# Altium schematic symbol library SamacSys.SchLib: 115 symbols (part 2 of 2)
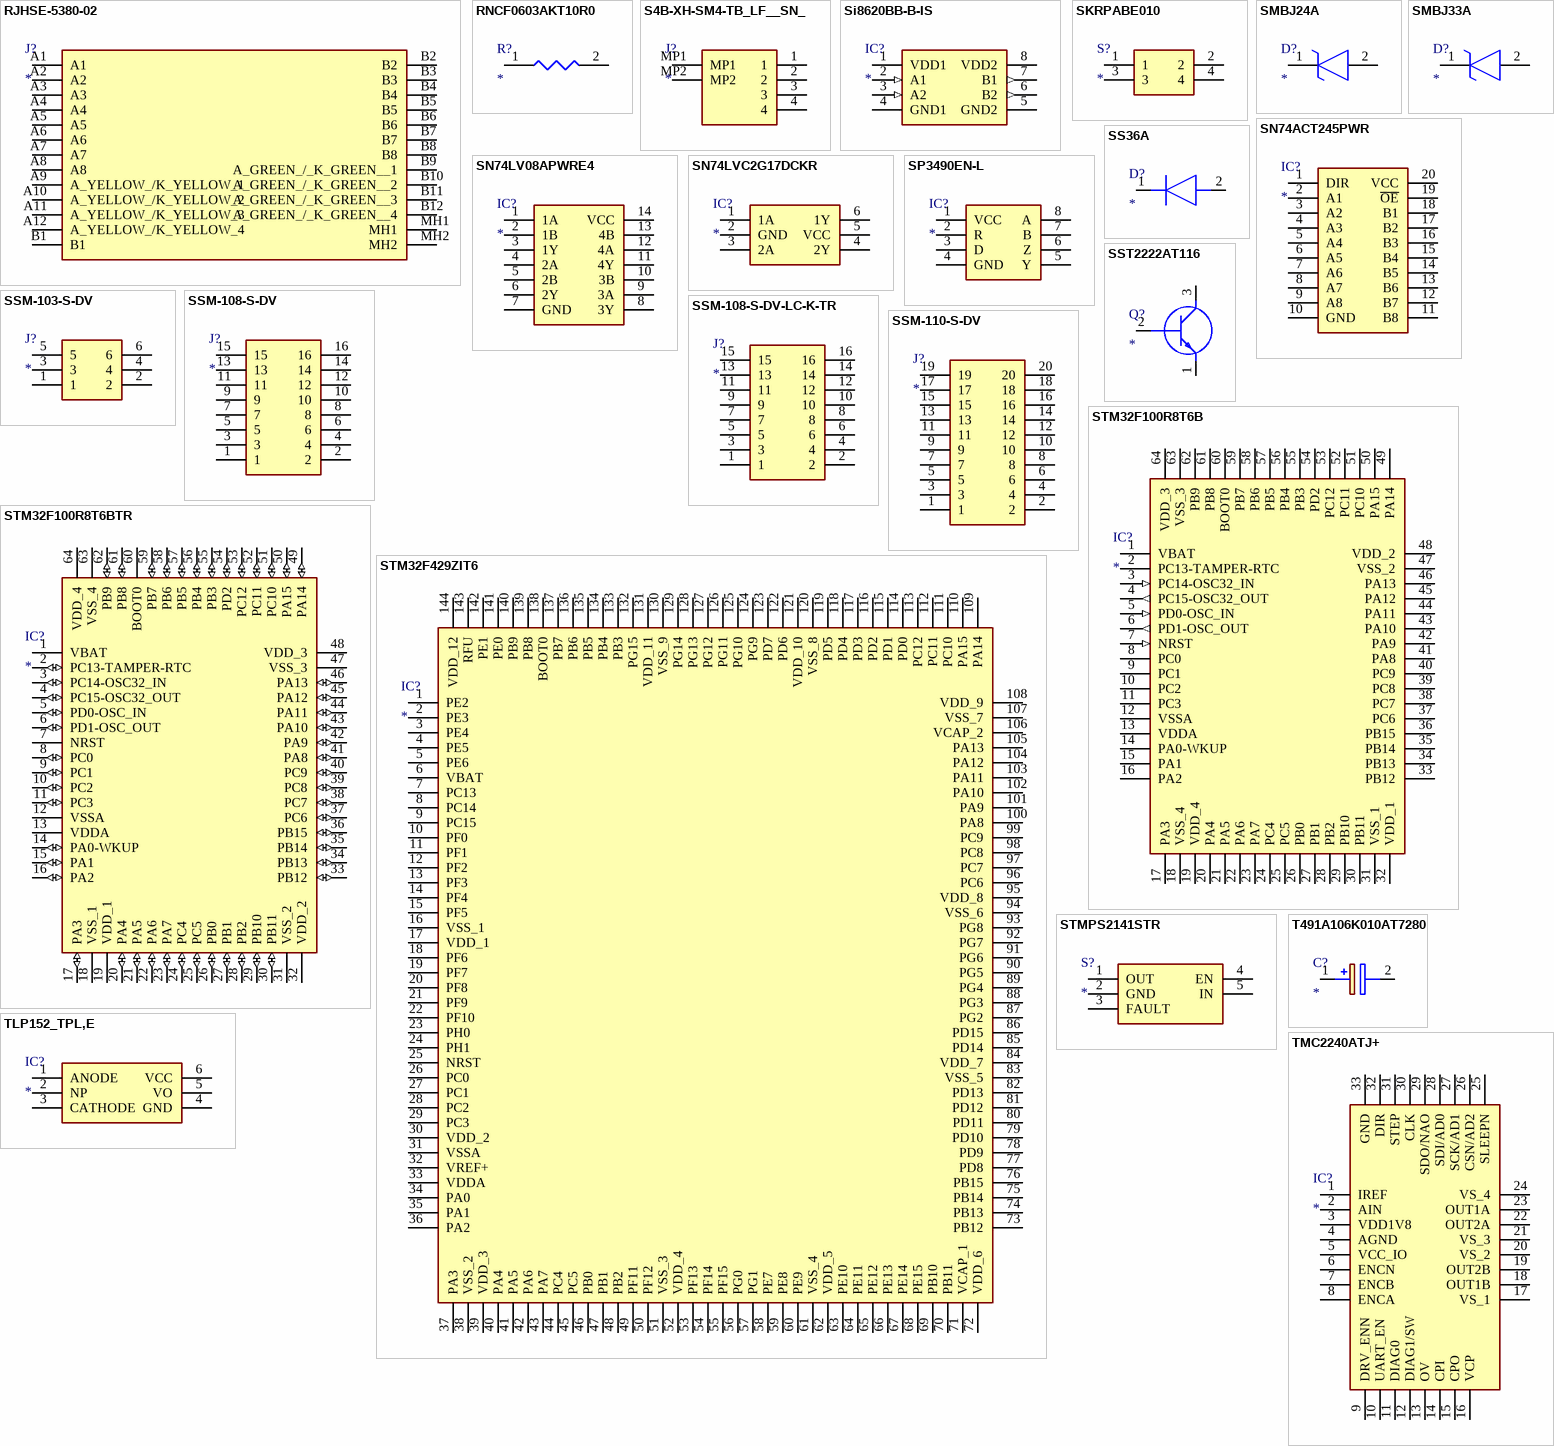
[diagram p4: symbols RJHSE-5380-02 to TMC2240ATJ+]

## SSM-103-S-DV
designator J?
Connector; Manufacturer_Name: SAMTEC; Manufacturer_Part_Number: SSM-103-S-DV; Datasheet Link: http://suddendocs.samtec.com/prints/ssm-1xx-xxx-dv-xx-xx-xxx-xx-mkt.pdf; Mouser Part Number: 200-SSM103SDV; Mouser Price/Stock: https://www.mouser.co.uk/ProductDetail/Samtec/SSM-103-S-DV?qs=92ilVni64gwd8vWnjybXxg%3D%3D; Arrow Part Number: SSM-103-S-DV; Arrow Price/Stock: https://www.arrow.com/en/products/ssm-103-s-dv/samtec?region=nac
footprint SSM-103-XXX-DV
pins: 1, 2, 3, 4, 5, 6

## SSM-108-S-DV
designator J?
Connector; Manufacturer_Name: SAMTEC; Manufacturer_Part_Number: SSM-108-S-DV; Datasheet Link: http://suddendocs.samtec.com/prints/ssm-1xx-xxx-dv-xx-xx-xxx-xx-mkt.pdf; Mouser Part Number: 200-SSM108SDV; Mouser Price/Stock: https://www.mouser.co.uk/ProductDetail/Samtec/SSM-108-S-DV?qs=rU5fayqh%252BE1NjfamXybjbw%3D%3D; Arrow Part Number: SSM-108-S-DV; Arrow Price/Stock: https://www.arrow.com/en/products/ssm-108-s-dv/samtec
footprint SSM-108-XXX-DV
pins: 1, 2, 3, 4, 5, 6, 7, 8, 9, 10, 11, 12, 13, 14, 15, 16

## SSM-108-S-DV-LC-K-TR
designator J?
Connector; Manufacturer_Name: SAMTEC; Manufacturer_Part_Number: SSM-108-S-DV-LC-K-TR; Datasheet Link: https://suddendocs.samtec.com/prints/ssm-1xx-xxx-dv-xx-xx-xxx-x-xx-mkt.pdf; Height: 7.46mm; Mouser Part Number: 200-SSM108SDVLCKTR; Mouser Price/Stock: https://www.mouser.co.uk/ProductDetail/Samtec/SSM-108-S-DV-LC-K-TR?qs=Cqqh%252BS766wkJFAoCrY93wA%3D%3D
footprint SSM108SDVLCKTR
pins: 1, 2, 3, 4, 5, 6, 7, 8, 9, 10, 11, 12, 13, 14, 15, 16

## SSM-110-S-DV
designator J?
Connector; Manufacturer_Name: SAMTEC; Manufacturer_Part_Number: SSM-110-S-DV; Datasheet Link: https://www.samtec.com/partnumber/SSM-110-S-DV; Mouser Part Number: 200-SSM110SDV; Mouser Price/Stock: https://www.mouser.co.uk/ProductDetail/Samtec/SSM-110-S-DV?qs=rU5fayqh%252BE1RKDSaVkG8rw%3D%3D; Arrow Part Number: SSM-110-S-DV; Arrow Price/Stock: https://www.arrow.com/en/products/ssm-110-s-dv/samtec?region=nac
footprint SSM-110-XXX-DV
pins: 1, 2, 3, 4, 5, 6, 7, 8, 9, 10, 11, 12, 13, 14, 15, 16, 17, 18, 19, 20

## SST2222AT116
designator Q?
Transistor BJT NPN; Manufacturer_Name: ROHM Semiconductor; Manufacturer_Part_Number: SST2222AT116; Datasheet Link: https://fscdn.rohm.com/en/products/databook/datasheet/discrete/transistor/bipolar/um2222au3t106-e.pdf; Height: 1.2mm; Mouser Part Number: 755-SST2222AT116; Mouser Price/Stock: https://www.mouser.co.uk/ProductDetail/ROHM-Semiconductor/SST2222AT116?qs=4kLU8WoGk0sCQjMj42onwQ%3D%3D
footprint SOT95P240X120-3N
pins: 1 E, 2 B, 3 C

## STM32F100R8T6B
designator IC?
Integrated Circuit; Manufacturer_Name: STMicroelectronics; Manufacturer_Part_Number: STM32F100R8T6B; Datasheet Link: https://www.st.com/resource/en/datasheet/stm32f100cb.pdf; Height: 1.6mm; Mouser Part Number: 511-STM32F100R8T6B; Mouser Price/Stock: https://www.mouser.co.uk/ProductDetail/STMicroelectronics/STM32F100R8T6B?qs=J6yVZnuyYCNJKvxz4MQXyA%3D%3D; Arrow Part Number: STM32F100R8T6B; Arrow Price/Stock: https://www.arrow.com/en/products/stm32f100r8t6b/stmicroelectronics.html?utm_currency=USD&region=europe
footprint QFP50P1200X1200X160-64N
pins: 1 VBAT, 2 PC13-TAMPER-RTC, 3 PC14-OSC32_IN (in), 4 PC15-OSC32_OUT (out), 5 PD0-OSC_IN (in), 6 PD1-OSC_OUT (out), 7 NRST (in), 8 PC0, 9 PC1, 10 PC2, 11 PC3, 12 VSSA (power), 13 VDDA (power), 14 PA0-WKUP, 15 PA1, 16 PA2, 17 PA3, 18 VSS_4 (power), 19 VDD_4 (power), 20 PA4, 21 PA5, 22 PA6, 23 PA7, 24 PC4, 25 PC5, 26 PB0, 27 PB1, 28 PB2, 29 PB10, 30 PB11, 31 VSS_1 (power), 32 VDD_1 (power), 33 PB12, 34 PB13, 35 PB14, 36 PB15, 37 PC6, 38 PC7, 39 PC8, 40 PC9, 41 PA8, 42 PA9, 43 PA10, 44 PA11, 45 PA12, 46 PA13, 47 VSS_2 (power), 48 VDD_2 (power), 49 PA14, 50 PA15, 51 PC10, 52 PC11, 53 PC12, 54 PD2, 55 PB3, 56 PB4, 57 PB5, 58 PB6, 59 PB7, 60 BOOT0, 61 PB8, 62 PB9, 63 VSS_3 (power), 64 VDD_3 (power)

## STM32F100R8T6BTR
designator IC?
Integrated Circuit; Manufacturer_Name: STMicroelectronics; Manufacturer_Part_Number: STM32F100R8T6BTR; Datasheet Link: https://www.st.com/resource/en/datasheet/stm32f100cb.pdf; Height: 1.6mm; Mouser Part Number: 511-STM32F100R8T6BTR; Mouser Price/Stock: https://www.mouser.co.uk/ProductDetail/STMicroelectronics/STM32F100R8T6BTR?qs=mxm%2FV7p14IPj1XcVLso2ww%3D%3D; Arrow Part Number: STM32F100R8T6BTR; Arrow Price/Stock: https://www.arrow.com/en/products/stm32f100r8t6btr/stmicroelectronics.html?utm_currency=USD&region=nac
footprint QFP50P1200X1200X160-64N
pins: 1 VBAT (power), 2 PC13-TAMPER-RTC (io), 3 PC14-OSC32_IN (io), 4 PC15-OSC32_OUT (io), 5 PD0-OSC_IN (io), 6 PD1-OSC_OUT (io), 7 NRST, 8 PC0 (io), 9 PC1 (io), 10 PC2 (io), 11 PC3 (io), 12 VSSA (power), 13 VDDA (power), 14 PA0-WKUP (io), 15 PA1 (io), 16 PA2 (io), 17 PA3 (io), 18 VSS_1 (power), 19 VDD_1 (power), 20 PA4 (io), 21 PA5 (io), 22 PA6 (io), 23 PA7 (io), 24 PC4 (io), 25 PC5 (io), 26 PB0 (io), 27 PB1 (io), 28 PB2 (io), 29 PB10 (io), 30 PB11 (io), 31 VSS_2 (power), 32 VDD_2 (power), 33 PB12 (io), 34 PB13 (io), 35 PB14 (io), 36 PB15 (io), 37 PC6 (io), 38 PC7 (io), 39 PC8 (io), 40 PC9 (io), 41 PA8 (io), 42 PA9 (io), 43 PA10 (io), 44 PA11 (io), 45 PA12 (io), 46 PA13 (io), 47 VSS_3 (power), 48 VDD_3 (power), 49 PA14 (io), 50 PA15 (io), 51 PC10 (io), 52 PC11 (io), 53 PC12 (io), 54 PD2 (io), 55 PB3 (io), 56 PB4 (io), 57 PB5 (io), 58 PB6 (io), 59 PB7 (io), 60 BOOT0, 61 PB8 (io), 62 PB9 (io), 63 VSS_4 (power), 64 VDD_4 (power)

## STM32F429ZIT6
designator IC?
Integrated Circuit; Manufacturer_Name: STMicroelectronics; Manufacturer_Part_Number: STM32F429ZIT6; Datasheet Link: https://www.st.com/resource/en/datasheet/stm32f427vg.pdf; Height: 1.6mm; Mouser Part Number: 511-STM32F429ZIT6; Mouser Price/Stock: https://www.mouser.co.uk/ProductDetail/STMicroelectronics/STM32F429ZIT6?qs=DqCdCwOw4%2F5LWpMGYjTR8w%3D%3D; Arrow Part Number: STM32F429ZIT6; Arrow Price/Stock: https://www.arrow.com/en/products/stm32f429zit6/stmicroelectronics.html?utm_currency=USD&region=asia
footprint QFP50P2200X2200X160-144N
pins: 1 PE2, 2 PE3, 3 PE4, 4 PE5, 5 PE6, 6 VBAT, 7 PC13, 8 PC14, 9 PC15, 10 PF0, 11 PF1, 12 PF2, 13 PF3, 14 PF4, 15 PF5, 16 VSS_1, 17 VDD_1, 18 PF6, 19 PF7, 20 PF8, 21 PF9, 22 PF10, 23 PH0, 24 PH1, 25 NRST, 26 PC0, 27 PC1, 28 PC2, 29 PC3, 30 VDD_2, 31 VSSA, 32 VREF+, 33 VDDA, 34 PA0, 35 PA1, 36 PA2, 37 PA3, 38 VSS_2, 39 VDD_3, 40 PA4, 41 PA5, 42 PA6, 43 PA7, 44 PC4, 45 PC5, 46 PB0, 47 PB1, 48 PB2, 49 PF11, 50 PF12, 51 VSS_3, 52 VDD_4, 53 PF13, 54 PF14, 55 PF15, 56 PG0, 57 PG1, 58 PE7, 59 PE8, 60 PE9, 61 VSS_4, 62 VDD_5, 63 PE10, 64 PE11, 65 PE12, 66 PE13, 67 PE14, 68 PE15, 69 PB10, 70 PB11, 71 VCAP_1, 72 VDD_6, 73 PB12, 74 PB13, 75 PB14, 76 PB15, 77 PD8, 78 PD9, 79 PD10, 80 PD11, 81 PD12, 82 PD13, 83 VSS_5, 84 VDD_7, 85 PD14, 86 PD15, 87 PG2, 88 PG3, 89 PG4, 90 PG5, 91 PG6, 92 PG7, 93 PG8, 94 VSS_6, 95 VDD_8, 96 PC6, 97 PC7, 98 PC8, 99 PC9, 100 PA8, 101 PA9, 102 PA10, 103 PA11, 104 PA12, 105 PA13, 106 VCAP_2, 107 VSS_7, 108 VDD_9, 109 PA14, 110 PA15, 111 PC10, 112 PC11, 113 PC12, 114 PD0, 115 PD1, 116 PD2, 117 PD3, 118 PD4, 119 PD5, 120 VSS_8, 121 VDD_10, 122 PD6, 123 PD7, 124 PG9, 125 PG10, 126 PG11, 127 PG12, 128 PG13, 129 PG14, 130 VSS_9, 131 VDD_11, 132 PG15, 133 PB3, 134 PB4, 135 PB5, 136 PB6, 137 PB7, 138 BOOT0, 139 PB8, 140 PB9, 141 PE0, 142 PE1, 143 RFU, 144 VDD_12

## STMPS2141STR
designator S?
Switch; Manufacturer_Name: STMicroelectronics; Manufacturer_Part_Number: STMPS2141STR; Datasheet Link: https://www.st.com/resource/en/datasheet/stmps2141.pdf; Height: 1.45mm; Mouser Part Number: 511-STMPS2141STR; Mouser Price/Stock: https://www.mouser.co.uk/ProductDetail/STMicroelectronics/STMPS2141STR?qs=qolwYojYp3T210KvjX1eWg%3D%3D; Arrow Part Number: STMPS2141STR; Arrow Price/Stock: https://www.arrow.com/en/products/stmps2141str/stmicroelectronics.html?utm_currency=USD&region=nac
footprint SOT95P280X145-5N
pins: 1 OUT, 2 GND, 3 FAULT, 4 EN, 5 IN

## T491A106K010AT7280
designator C?
Capacitor Polarised; Manufacturer_Name: Yageo Group; Manufacturer_Part_Number: T491A106K010AT7280; Datasheet Link: https://www.yageogroup.com/content/datasheet/asset/file/KEM_T2005_T491; Height: 1.8mm; Mouser Part Number: 80-T491A106K107280; Mouser Price/Stock: https://www.mouser.co.uk/ProductDetail/KEMET/T491A106K010AT7280?qs=HIKTYMuL%252B9NxijI%252BZuzkYQ%3D%3D; Arrow Part Number: T491A106K010AT7280; Arrow Price/Stock: https://www.arrow.com/en/products/t491a106k010at7280/kemet-corporation?utm_currency=USD&region=nac
footprint T491A
pins: 1 +, 2 -

## TLP152_TPL,E
designator IC?
Integrated Circuit; Manufacturer_Name: Toshiba; Manufacturer_Part_Number: TLP152(TPL,E; Datasheet Link: http://toshiba.semicon-storage.com/info/docget.jsp?did=13615&prodName=TLP152; Height: 2.3mm; Mouser Part Number: 757-TLP152TPLE; Mouser Price/Stock: https://www.mouser.co.uk/ProductDetail/Toshiba/TLP152TPLE?qs=WTEd434rUSUZa6a75d6uQg%3D%3D; Arrow Part Number: TLP152(TPL,E; Arrow Price/Stock: https://www.arrow.com/en/products/tlp152-tple/toshiba?region=nac
footprint SOIC127P700X230-6N
pins: 1 ANODE, 2 NP, 3 CATHODE, 4 GND, 5 VO, 6 VCC

## TMC2240ATJ+
designator IC?
Integrated Circuit; Manufacturer_Name: Analog Devices; Manufacturer_Part_Number: TMC2240ATJ+; Datasheet Link: https://www.analog.com/media/en/technical-documentation/data-sheets/TMC2240_datasheet_rev1.pdf; Height: 0.8mm; Mouser Part Number: 700-TMC2240ATJ+; Mouser Price/Stock: https://www.mouser.co.uk/ProductDetail/ADI-Trinamic/TMC2240ATJ%2b?qs=Y0Uzf4wQF3mpx%2FFlSspUQg%3D%3D; Arrow Part Number: TMC2240ATJ+; Arrow Price/Stock: https://www.arrow.com/en/products/tmc2240atj/analog-devices.html?utm_currency=USD&region=nac
footprint QFN50P500X500X80-33N
pins: 1 IREF, 2 AIN, 3 VDD1V8, 4 AGND, 5 VCC_IO, 6 ENCN, 7 ENCB, 8 ENCA, 9 DRV_ENN, 10 UART_EN, 11 DIAG0, 12 DIAG1/SW, 13 OV, 14 CPI, 15 CPO, 16 VCP, 17 VS_1, 18 OUT1B, 19 OUT2B, 20 VS_2, 21 VS_3, 22 OUT2A, 23 OUT1A, 24 VS_4, 25 SLEEPN, 26 CSN/AD2, 27 SCK/AD1, 28 SDI/AD0, 29 SDO/NAO, 30 CLK, 31 STEP, 32 DIR, 33 GND

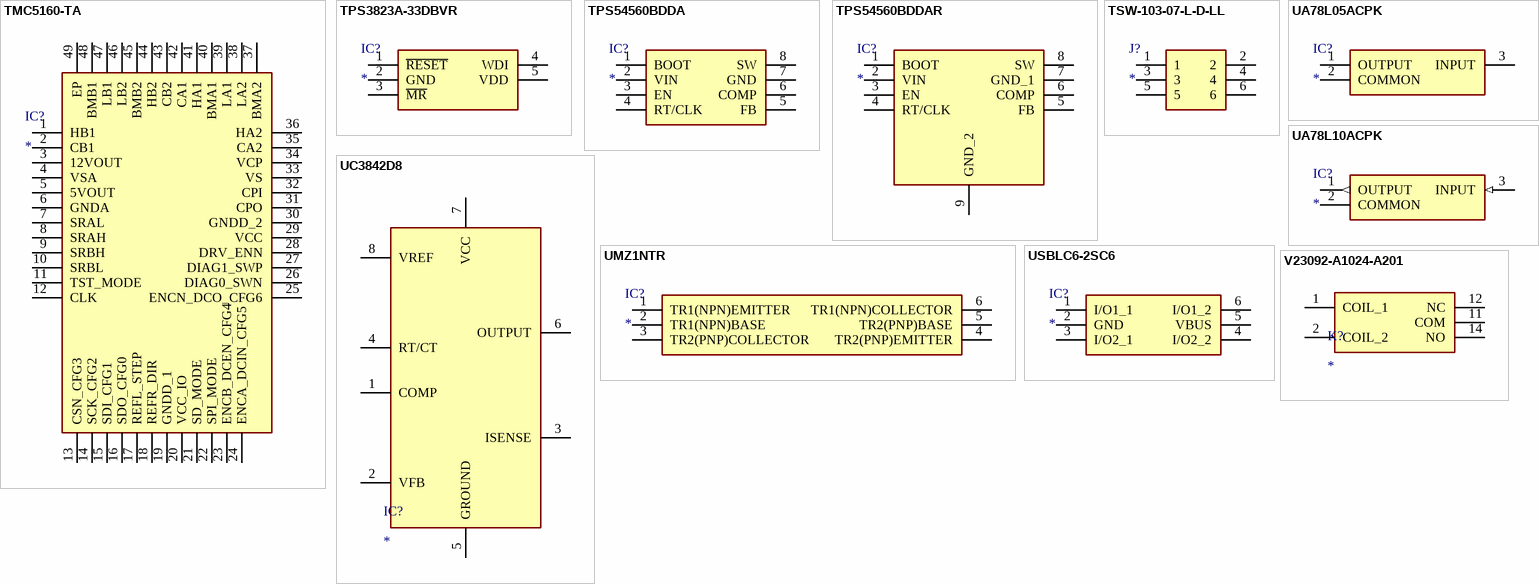
[diagram p3: symbols TMC5160-TA to V23092-A1024-A201]

## TMC5160-TA
designator IC?
Integrated Circuit; Manufacturer_Name: Analog Devices; Manufacturer_Part_Number: TMC5160-TA; Datasheet Link: https://datasheet.datasheetarchive.com/originals/distributors/DKDS-40/47761.pdf; Height: 1.2mm; Mouser Part Number: N/A; Mouser Price/Stock: https://www.mouser.co.uk/ProductDetail/ADI-Trinamic/TMC5160-TA?qs=TiOZkKH1s2S%2FryBy%252BZXLdA%3D%3D
footprint QFP50P900X900X120-49N
pins: 1 HB1, 2 CB1, 3 12VOUT, 4 VSA, 5 5VOUT, 6 GNDA, 7 SRAL, 8 SRAH, 9 SRBH, 10 SRBL, 11 TST_MODE, 12 CLK, 13 CSN_CFG3, 14 SCK_CFG2, 15 SDI_CFG1, 16 SDO_CFG0, 17 REFL_STEP, 18 REFR_DIR, 19 GNDD_1, 20 VCC_IO, 21 SD_MODE, 22 SPI_MODE, 23 ENCB_DCEN_CFG4, 24 ENCA_DCIN_CFG5, 25 ENCN_DCO_CFG6, 26 DIAG0_SWN, 27 DIAG1_SWP, 28 DRV_ENN, 29 VCC, 30 GNDD_2, 31 CPO, 32 CPI, 33 VS, 34 VCP, 35 CA2, 36 HA2, 37 BMA2, 38 LA2, 39 LA1, 40 BMA1, 41 HA1, 42 CA1, 43 CB2, 44 HB2, 45 BMB2, 46 LB2, 47 LB1, 48 BMB1, 49 EP

## TPS3823A-33DBVR
designator IC?
Integrated Circuit; Manufacturer_Name: Texas Instruments; Manufacturer_Part_Number: TPS3823A-33DBVR; Datasheet Link: http://www.ti.com/lit/gpn/tps3823; Height: 1.45mm; Mouser Part Number: 595-TPS3823A-33DBVR; Mouser Price/Stock: https://www.mouser.co.uk/ProductDetail/Texas-Instruments/TPS3823A-33DBVR?qs=7GxONfNUZSiFGrhP81jEKA%3D%3D; Arrow Part Number: TPS3823A-33DBVR; Arrow Price/Stock: https://www.arrow.com/en/products/tps3823a-33dbvr/texas-instruments.html?utm_currency=USD&region=nac
footprint SOT95P280X145-5N
pins: 1 ~{RESET}, 2 GND, 3 ~{MR}, 4 WDI, 5 VDD

## TPS54560BDDA
designator IC?
Integrated Circuit; Manufacturer_Name: Texas Instruments; Manufacturer_Part_Number: TPS54560BDDA; Datasheet Link: http://www.ti.com/lit/ds/symlink/tps54560b.pdf; Height: 1.7mm; Mouser Part Number: 595-TPS54560BDDA; Mouser Price/Stock: https://www.mouser.co.uk/ProductDetail/Texas-Instruments/TPS54560BDDA?qs=gZXFycFWdAMqSdZZ7nACGQ%3D%3D; Arrow Part Number: TPS54560BDDA; Arrow Price/Stock: https://www.arrow.com/en/products/tps54560bdda/texas-instruments.html?utm_currency=USD&region=nac
footprint SOIC127P600X170-8N
pins: 1 BOOT, 2 VIN, 3 EN, 4 RT/CLK, 5 FB, 6 COMP, 7 GND, 8 SW

## TPS54560BDDAR
designator IC?
Integrated Circuit; Manufacturer_Name: Texas Instruments; Manufacturer_Part_Number: TPS54560BDDAR; Datasheet Link: http://www.ti.com/lit/gpn/TPS54560B; Height: 1.7mm; Mouser Part Number: 595-TPS54560BDDAR; Mouser Price/Stock: https://www.mouser.co.uk/ProductDetail/Texas-Instruments/TPS54560BDDAR?qs=gZXFycFWdAMPyxqrm5VZeg%3D%3D; Arrow Part Number: TPS54560BDDAR; Arrow Price/Stock: https://www.arrow.com/en/products/tps54560bddar/texas-instruments.html?utm_currency=USD&region=nac
footprint SOIC127P600X170-9N
pins: 1 BOOT, 2 VIN, 3 EN, 4 RT/CLK, 5 FB, 6 COMP, 7 GND_1, 8 SW, 9 GND_2

## TSW-103-07-L-D-LL
designator J?
Connector; Manufacturer_Name: SAMTEC; Manufacturer_Part_Number: TSW-103-07-L-D-LL; Datasheet Link: http://suddendocs.samtec.com/catalog_english/tsw_th.pdf; Height: 8.38mm; Mouser Part Number: 200-TSW10307LDLL; Mouser Price/Stock: https://www.mouser.co.uk/ProductDetail/Samtec/TSW-103-07-L-D-LL?qs=rU5fayqh%252BE0bwu%2Fqe%252ByZsw%3D%3D; Arrow Part Number: TSW-103-07-L-D-LL; Arrow Price/Stock: https://www.arrow.com/en/products/tsw-103-07-l-d-ll/samtec?utm_currency=USD&region=nac
footprint HDRV6W64P254_2X3_762X508X838P
pins: 1, 2, 3, 4, 5, 6

## UA78L05ACPK
designator IC?
Integrated Circuit; Manufacturer_Name: Texas Instruments; Manufacturer_Part_Number: UA78L05ACPK; Datasheet Link: http://www.ti.com/lit/gpn/ua78l; Mouser Part Number: 595-UA78L05ACPK; Mouser Price/Stock: https://www.mouser.co.uk/ProductDetail/Texas-Instruments/UA78L05ACPK?qs=FetendrIl6sYNjph9CpoGw%3D%3D; Arrow Part Number: UA78L05ACPK; Arrow Price/Stock: https://www.arrow.com/en/products/ua78l05acpk/texas-instruments?region=nac
footprint PK(R-PSSO-F3)
pins: 1 OUTPUT, 2 COMMON, 3 INPUT

## UA78L10ACPK
designator IC?
Integrated Circuit; Manufacturer_Name: Texas Instruments; Manufacturer_Part_Number: UA78L10ACPK; Datasheet Link: https://datasheet.datasheetarchive.com/originals/distributors/Datasheets-302/22672.pdf; Mouser Part Number: 595-UA78L10ACPK; Mouser Price/Stock: https://www.mouser.co.uk/ProductDetail/Texas-Instruments/UA78L10ACPK?qs=fvkeCqCHl3BcGTVIIQXEkg%3D%3D; Arrow Part Number: UA78L10ACPK; Arrow Price/Stock: https://www.arrow.com/en/products/ua78l10acpk/texas-instruments?region=nac
footprint PK(R-PSSO-F3)
pins: 1 OUTPUT (out), 2 COMMON, 3 INPUT (in)

## UC3842D8
designator IC?
Integrated Circuit; Manufacturer_Name: Texas Instruments; Manufacturer_Part_Number: UC3842D8; Datasheet Link: https://www.ti.com/lit/gpn/UC3842; Height: 1.75mm; Mouser Part Number: 595-UC3842D8; Mouser Price/Stock: https://www.mouser.co.uk/ProductDetail/Texas-Instruments/UC3842D8?qs=L5CvrNUdZiocuMV0TvkBfw%3D%3D; Arrow Part Number: UC3842D8; Arrow Price/Stock: https://www.arrow.com/en/products/uc3842d8/texas-instruments.html?utm_currency=USD&region=europe
footprint SOIC127P600X175-8N
pins: 1 COMP, 2 VFB, 3 ISENSE, 4 RT/CT, 5 GROUND, 6 OUTPUT, 7 VCC, 8 VREF

## UMZ1NTR
designator IC?
Integrated Circuit; Manufacturer_Name: ROHM Semiconductor; Manufacturer_Part_Number: UMZ1NTR; Datasheet Link: https://fscdn.rohm.com/en/products/databook/datasheet/discrete/transistor/bipolar/umz1ntr-e.pdf; Height: 1mm; Mouser Part Number: 755-UMZ1NTR; Mouser Price/Stock: https://www.mouser.co.uk/ProductDetail/ROHM-Semiconductor/UMZ1NTR?qs=4kLU8WoGk0va4JW4E36oZw%3D%3D; Arrow Part Number: UMZ1NTR; Arrow Price/Stock: https://www.arrow.com/en/products/umz1ntr/rohm-semiconductor
footprint SOT65P210X100-6N
pins: 1 TR1(NPN)EMITTER, 2 TR1(NPN)BASE, 3 TR2(PNP)COLLECTOR, 4 TR2(PNP)EMITTER, 5 TR2(PNP)BASE, 6 TR1(NPN)COLLECTOR

## USBLC6-2SC6
designator IC?
Integrated Circuit; Manufacturer_Name: STMicroelectronics; Manufacturer_Part_Number: USBLC6-2SC6; Datasheet Link: https://www.st.com/resource/en/datasheet/usblc6-2.pdf; Height: 1.45mm; Mouser Part Number: 511-USBLC6-2SC6; Mouser Price/Stock: https://www.mouser.co.uk/ProductDetail/STMicroelectronics/USBLC6-2SC6?qs=po45yt2pPpu%2FhNIlwQdTlg%3D%3D; Arrow Part Number: USBLC6-2SC6; Arrow Price/Stock: https://www.arrow.com/en/products/usblc6-2sc6/stmicroelectronics.html?utm_currency=USD&region=nac
footprint SOT95P280X145-6N
pins: 1 I/O1_1, 2 GND, 3 I/O2_1, 4 I/O2_2, 5 VBUS, 6 I/O1_2

## V23092-A1024-A201
designator K?
Relay or Contactor; Manufacturer_Name: TE Connectivity; Manufacturer_Part_Number: V23092-A1024-A201; Datasheet Link: https://www.te.com/commerce/DocumentDelivery/DDEController?Action=srchrtrv&DocNm=SNR&DocType=Data%20Sheet&DocLang=English&DocFormat=pdf&PartCntxt=2-1393236-1; Height: 15mm; Mouser Part Number: 655-V23092A1024A201; Mouser Price/Stock: https://www.mouser.co.uk/ProductDetail/TE-Connectivity/V23092-A1024-A201?qs=wvf%252BmaPDr9MLSsi6%2F89CSA%3D%3D; Arrow Part Number: V23092-A1024-A201; Arrow Price/Stock: null?region=nac
footprint V23092A1024A201
pins: 1 COIL_1, 2 COIL_2, 11 COM, 12 NC, 14 NO